# Altium integrated library Linear Technology Power Management System Supervisor, Monitor and Control.IntLib: 1611 symbols (part 29 of 100)
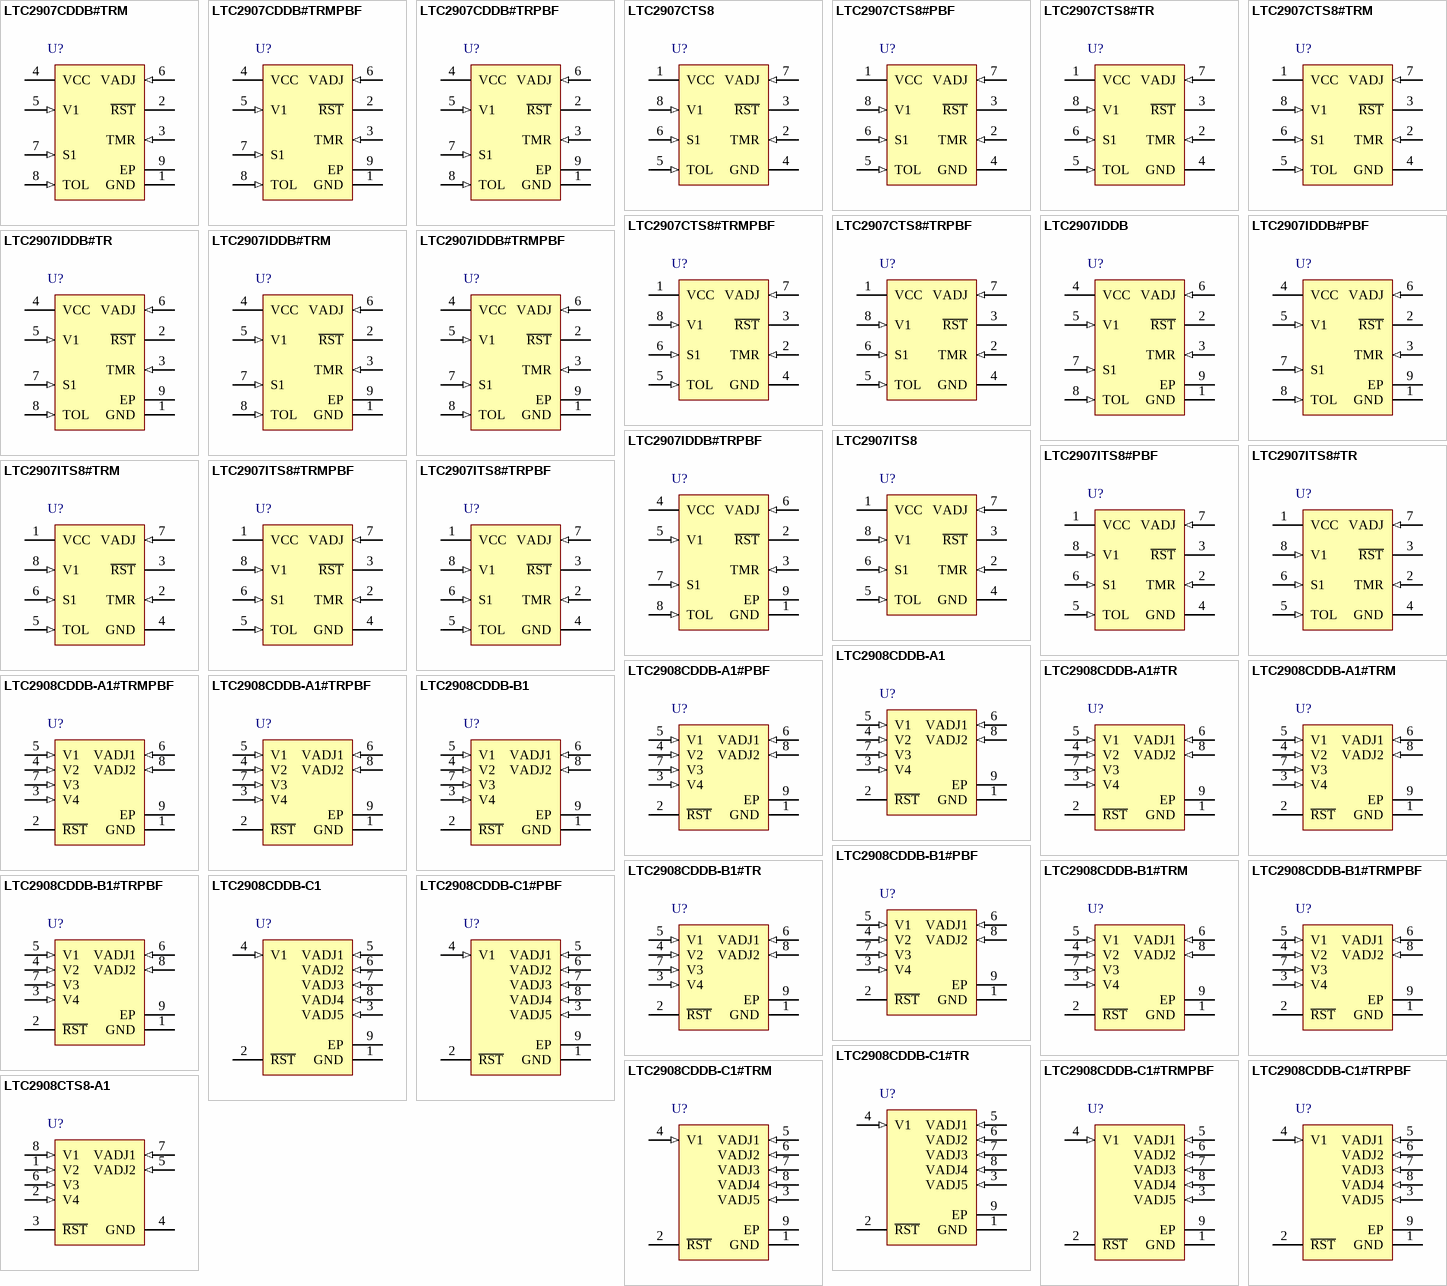
[diagram p73: symbols LTC2907CDDB#TRM to LTC2908CTS8-A1]

## LTC2907ITS8
designator U?
Precision Dual Supply Monitor with One Pin-Selectable Threshold and One Adjustable Input, 8-pin SOT23 (TS8-8), -40 to 85 degC; Manufacturer: Linear Technology; PartNumber: LTC2907ITS8; Number of Supplies(#): 2; PackageVersion: Rev. A, 08/2010; PackageReference: TS8-8; PackageDescription: 8-Pin Plastic TSOT-23, Body 2.9 x 1.63 mm, Pitch 0.65 mm; RoHS: FALSE; Mounting Technology: Surface Mount; Code_JEDEC: MO-193; ComponentLink1Description: Manufacturer URL; ComponentLink1URL: http://www.linear.com/; ComponentLink2Description: Datasheet; ComponentLink2URL: http://cds.linear.com/docs/en/datasheet/29067f.pdf; ComponentLink3Description: Package Specification; ComponentLink3URL: http://cds.linear.com/docs/en/packaging/SOT_8_05-08-1637.pdf
footprint LT-TS8-8-TSOT-23_V (SOT23, 8-Leads, Body 2.9x1.75mm, Pitch 0.65mm)
pins: 1 VCC (power) "Optional Power Supply Pin. VCC powers and maintains the correct operation of the RST and R\S\T\ pins in the complete absence of V1. If V1 is present, the greater of VCC or V1 (VMAX) powers the internal circuitry and the (See Datasheet)", 2 TMR (in) "(LTC2907 Only) Reset Delay Time Programming Pin. Attach an external capacitor (CTMR) to GND to set a reset delay time of 9ms/nF. Leaving the pin open generates a minimum delay of approximately 200ms. A 22nF capacitor will (See Datasheet)", 3 ~{RST} (oc) "Inverted Reset Logic Output. Pulls low when either V1 or VADJ is below the reset threshold and holds low for programmed delay time after all voltage inputs are above threshold. This pin has a weak pull up to VMAX and may be (See Datasheet)", 4 GND (power) "Ground.", 5 TOL (in) "Three-State Input for Supply Tolerance Selection (5%, 7.5% or 10%). Refer to Applications Information for tolerance selection chart (Table 3).", 6 S1 (in) "The Voltage Threshold Select Three- State Input. Connect to V1, GND or leave unconnected in open state to select one of three possible input threshold levels (refer to Table 1).", 7 VADJ (in) "Adjustable Voltage Input. Bypass this pin to ground with a 0.1uF (or greater) capacitor in a noisy environment.", 8 V1 (in) "Voltage Input 1. Select from 5V, 3.3V or 2.5V. Refer to Table 1 for details. The greater of (V1, VCC) is also the internal VCC (VMAX). Bypass this pin to ground with a 0.1uF (or greater) capacitor."

## LTC2907ITS8#PBF
designator U?
Precision Dual Supply Monitor with One Pin-Selectable Threshold and One Adjustable Input, 8-pin SOT23 (TS8-8), -40 to 85 degC, Pb-Free; Manufacturer: Linear Technology; PartNumber: LTC2907ITS8#PBF; Number of Supplies(#): 2; PackageVersion: Rev. A, 08/2010; PackageReference: TS8-8; PackageDescription: 8-Pin Plastic TSOT-23, Body 2.9 x 1.63 mm, Pitch 0.65 mm; Supplier 1: Newark; Supplier Part Number 1: 78T3009; RoHS: TRUE; Mounting Technology: Surface Mount; Code_JEDEC: MO-193; ComponentLink1Description: Manufacturer URL; ComponentLink1URL: http://www.linear.com/; ComponentLink2Description: Datasheet; ComponentLink2URL: http://cds.linear.com/docs/en/datasheet/29067f.pdf; ComponentLink3Description: Package Specification; ComponentLink3URL: http://cds.linear.com/docs/en/packaging/SOT_8_05-08-1637.pdf
footprint LT-TS8-8-TSOT-23_V (SOT23, 8-Leads, Body 2.9x1.75mm, Pitch 0.65mm)
pins: 1 VCC (power) "Optional Power Supply Pin. VCC powers and maintains the correct operation of the RST and R\S\T\ pins in the complete absence of V1. If V1 is present, the greater of VCC or V1 (VMAX) powers the internal circuitry and the (See Datasheet)", 2 TMR (in) "(LTC2907 Only) Reset Delay Time Programming Pin. Attach an external capacitor (CTMR) to GND to set a reset delay time of 9ms/nF. Leaving the pin open generates a minimum delay of approximately 200ms. A 22nF capacitor will (See Datasheet)", 3 ~{RST} (oc) "Inverted Reset Logic Output. Pulls low when either V1 or VADJ is below the reset threshold and holds low for programmed delay time after all voltage inputs are above threshold. This pin has a weak pull up to VMAX and may be (See Datasheet)", 4 GND (power) "Ground.", 5 TOL (in) "Three-State Input for Supply Tolerance Selection (5%, 7.5% or 10%). Refer to Applications Information for tolerance selection chart (Table 3).", 6 S1 (in) "The Voltage Threshold Select Three- State Input. Connect to V1, GND or leave unconnected in open state to select one of three possible input threshold levels (refer to Table 1).", 7 VADJ (in) "Adjustable Voltage Input. Bypass this pin to ground with a 0.1uF (or greater) capacitor in a noisy environment.", 8 V1 (in) "Voltage Input 1. Select from 5V, 3.3V or 2.5V. Refer to Table 1 for details. The greater of (V1, VCC) is also the internal VCC (VMAX). Bypass this pin to ground with a 0.1uF (or greater) capacitor."

## LTC2907ITS8#TR
designator U?
Precision Dual Supply Monitor with One Pin-Selectable Threshold and One Adjustable Input, 8-pin SOT23 (TS8-8), -40 to 85 degC, Tape and Reel; Manufacturer: Linear Technology; PartNumber: LTC2907ITS8#TR; Number of Supplies(#): 2; PackageVersion: Rev. A, 08/2010; PackageReference: TS8-8; PackageDescription: 8-Pin Plastic TSOT-23, Body 2.9 x 1.63 mm, Pitch 0.65 mm; Supplier 1: Digi-Key; Supplier Part Number 1: LTC2907ITS8#TR-ND; Supplier 2: Newark; Supplier Part Number 2: 56M6719; Packing: Tape and Reel; RoHS: FALSE; Mounting Technology: Surface Mount; Code_JEDEC: MO-193; ComponentLink1Description: Manufacturer URL; ComponentLink1URL: http://www.linear.com/; ComponentLink2Description: Datasheet; ComponentLink2URL: http://cds.linear.com/docs/en/datasheet/29067f.pdf; ComponentLink3Description: Package Specification; ComponentLink3URL: http://cds.linear.com/docs/en/packaging/SOT_8_05-08-1637.pdf
footprint LT-TS8-8-TSOT-23_V (SOT23, 8-Leads, Body 2.9x1.75mm, Pitch 0.65mm)
pins: 1 VCC (power) "Optional Power Supply Pin. VCC powers and maintains the correct operation of the RST and R\S\T\ pins in the complete absence of V1. If V1 is present, the greater of VCC or V1 (VMAX) powers the internal circuitry and the (See Datasheet)", 2 TMR (in) "(LTC2907 Only) Reset Delay Time Programming Pin. Attach an external capacitor (CTMR) to GND to set a reset delay time of 9ms/nF. Leaving the pin open generates a minimum delay of approximately 200ms. A 22nF capacitor will (See Datasheet)", 3 ~{RST} (oc) "Inverted Reset Logic Output. Pulls low when either V1 or VADJ is below the reset threshold and holds low for programmed delay time after all voltage inputs are above threshold. This pin has a weak pull up to VMAX and may be (See Datasheet)", 4 GND (power) "Ground.", 5 TOL (in) "Three-State Input for Supply Tolerance Selection (5%, 7.5% or 10%). Refer to Applications Information for tolerance selection chart (Table 3).", 6 S1 (in) "The Voltage Threshold Select Three- State Input. Connect to V1, GND or leave unconnected in open state to select one of three possible input threshold levels (refer to Table 1).", 7 VADJ (in) "Adjustable Voltage Input. Bypass this pin to ground with a 0.1uF (or greater) capacitor in a noisy environment.", 8 V1 (in) "Voltage Input 1. Select from 5V, 3.3V or 2.5V. Refer to Table 1 for details. The greater of (V1, VCC) is also the internal VCC (VMAX). Bypass this pin to ground with a 0.1uF (or greater) capacitor."

## LTC2907ITS8#TRM
designator U?
Precision Dual Supply Monitor with One Pin-Selectable Threshold and One Adjustable Input, 8-pin SOT23 (TS8-8), -40 to 85 degC, Mini Tape and Reel; Manufacturer: Linear Technology; PartNumber: LTC2907ITS8#TRM; Number of Supplies(#): 2; PackageVersion: Rev. A, 08/2010; PackageReference: TS8-8; PackageDescription: 8-Pin Plastic TSOT-23, Body 2.9 x 1.63 mm, Pitch 0.65 mm; Supplier 1: Digi-Key; Supplier Part Number 1: LTC2907ITS8#TRM-ND; Packing: Mini Tape and Reel; RoHS: FALSE; Mounting Technology: Surface Mount; Code_JEDEC: MO-193; ComponentLink1Description: Manufacturer URL; ComponentLink1URL: http://www.linear.com/; ComponentLink2Description: Datasheet; ComponentLink2URL: http://cds.linear.com/docs/en/datasheet/29067f.pdf; ComponentLink3Description: Package Specification; ComponentLink3URL: http://cds.linear.com/docs/en/packaging/SOT_8_05-08-1637.pdf
footprint LT-TS8-8-TSOT-23_V (SOT23, 8-Leads, Body 2.9x1.75mm, Pitch 0.65mm)
pins: 1 VCC (power) "Optional Power Supply Pin. VCC powers and maintains the correct operation of the RST and R\S\T\ pins in the complete absence of V1. If V1 is present, the greater of VCC or V1 (VMAX) powers the internal circuitry and the (See Datasheet)", 2 TMR (in) "(LTC2907 Only) Reset Delay Time Programming Pin. Attach an external capacitor (CTMR) to GND to set a reset delay time of 9ms/nF. Leaving the pin open generates a minimum delay of approximately 200ms. A 22nF capacitor will (See Datasheet)", 3 ~{RST} (oc) "Inverted Reset Logic Output. Pulls low when either V1 or VADJ is below the reset threshold and holds low for programmed delay time after all voltage inputs are above threshold. This pin has a weak pull up to VMAX and may be (See Datasheet)", 4 GND (power) "Ground.", 5 TOL (in) "Three-State Input for Supply Tolerance Selection (5%, 7.5% or 10%). Refer to Applications Information for tolerance selection chart (Table 3).", 6 S1 (in) "The Voltage Threshold Select Three- State Input. Connect to V1, GND or leave unconnected in open state to select one of three possible input threshold levels (refer to Table 1).", 7 VADJ (in) "Adjustable Voltage Input. Bypass this pin to ground with a 0.1uF (or greater) capacitor in a noisy environment.", 8 V1 (in) "Voltage Input 1. Select from 5V, 3.3V or 2.5V. Refer to Table 1 for details. The greater of (V1, VCC) is also the internal VCC (VMAX). Bypass this pin to ground with a 0.1uF (or greater) capacitor."

## LTC2907ITS8#TRMPBF
designator U?
Precision Dual Supply Monitor with One Pin-Selectable Threshold and One Adjustable Input, 8-pin SOT23 (TS8-8), -40 to 85 degC, Pb-Free, Mini Tape and Reel; Manufacturer: Linear Technology; PartNumber: LTC2907ITS8#TRMPBF; Number of Supplies(#): 2; PackageVersion: Rev. A, 08/2010; PackageReference: TS8-8; PackageDescription: 8-Pin Plastic TSOT-23, Body 2.9 x 1.63 mm, Pitch 0.65 mm; Supplier 1: Digi-Key; Supplier Part Number 1: LTC2907ITS8#TRMPBFTR-ND; Supplier 2: Digi-Key; Supplier Part Number 2: LTC2907ITS8#TRMPBFCT-ND; Supplier 3: Digi-Key; Supplier Part Number 3: LTC2907ITS8#TRMPBFDKR-ND; Packing: Mini Tape and Reel; RoHS: TRUE; Mounting Technology: Surface Mount; Code_JEDEC: MO-193; ComponentLink1Description: Manufacturer URL; ComponentLink1URL: http://www.linear.com/; ComponentLink2Description: Datasheet; ComponentLink2URL: http://cds.linear.com/docs/en/datasheet/29067f.pdf; ComponentLink3Description: Package Specification; ComponentLink3URL: http://cds.linear.com/docs/en/packaging/SOT_8_05-08-1637.pdf
footprint LT-TS8-8-TSOT-23_V (SOT23, 8-Leads, Body 2.9x1.75mm, Pitch 0.65mm)
pins: 1 VCC (power) "Optional Power Supply Pin. VCC powers and maintains the correct operation of the RST and R\S\T\ pins in the complete absence of V1. If V1 is present, the greater of VCC or V1 (VMAX) powers the internal circuitry and the (See Datasheet)", 2 TMR (in) "(LTC2907 Only) Reset Delay Time Programming Pin. Attach an external capacitor (CTMR) to GND to set a reset delay time of 9ms/nF. Leaving the pin open generates a minimum delay of approximately 200ms. A 22nF capacitor will (See Datasheet)", 3 ~{RST} (oc) "Inverted Reset Logic Output. Pulls low when either V1 or VADJ is below the reset threshold and holds low for programmed delay time after all voltage inputs are above threshold. This pin has a weak pull up to VMAX and may be (See Datasheet)", 4 GND (power) "Ground.", 5 TOL (in) "Three-State Input for Supply Tolerance Selection (5%, 7.5% or 10%). Refer to Applications Information for tolerance selection chart (Table 3).", 6 S1 (in) "The Voltage Threshold Select Three- State Input. Connect to V1, GND or leave unconnected in open state to select one of three possible input threshold levels (refer to Table 1).", 7 VADJ (in) "Adjustable Voltage Input. Bypass this pin to ground with a 0.1uF (or greater) capacitor in a noisy environment.", 8 V1 (in) "Voltage Input 1. Select from 5V, 3.3V or 2.5V. Refer to Table 1 for details. The greater of (V1, VCC) is also the internal VCC (VMAX). Bypass this pin to ground with a 0.1uF (or greater) capacitor."

## LTC2907ITS8#TRPBF
designator U?
Precision Dual Supply Monitor with One Pin-Selectable Threshold and One Adjustable Input, 8-pin SOT23 (TS8-8), -40 to 85 degC, Pb-Free, Tape and Reel; Manufacturer: Linear Technology; PartNumber: LTC2907ITS8#TRPBF; Number of Supplies(#): 2; PackageVersion: Rev. A, 08/2010; PackageReference: TS8-8; PackageDescription: 8-Pin Plastic TSOT-23, Body 2.9 x 1.63 mm, Pitch 0.65 mm; Supplier 1: Digi-Key; Supplier Part Number 1: LTC2907ITS8#TRPBF-ND; Supplier 2: Newark; Supplier Part Number 2: 56M6722; Packing: Tape and Reel; RoHS: TRUE; Mounting Technology: Surface Mount; Code_JEDEC: MO-193; ComponentLink1Description: Manufacturer URL; ComponentLink1URL: http://www.linear.com/; ComponentLink2Description: Datasheet; ComponentLink2URL: http://cds.linear.com/docs/en/datasheet/29067f.pdf; ComponentLink3Description: Package Specification; ComponentLink3URL: http://cds.linear.com/docs/en/packaging/SOT_8_05-08-1637.pdf
footprint LT-TS8-8-TSOT-23_V (SOT23, 8-Leads, Body 2.9x1.75mm, Pitch 0.65mm)
pins: 1 VCC (power) "Optional Power Supply Pin. VCC powers and maintains the correct operation of the RST and R\S\T\ pins in the complete absence of V1. If V1 is present, the greater of VCC or V1 (VMAX) powers the internal circuitry and the (See Datasheet)", 2 TMR (in) "(LTC2907 Only) Reset Delay Time Programming Pin. Attach an external capacitor (CTMR) to GND to set a reset delay time of 9ms/nF. Leaving the pin open generates a minimum delay of approximately 200ms. A 22nF capacitor will (See Datasheet)", 3 ~{RST} (oc) "Inverted Reset Logic Output. Pulls low when either V1 or VADJ is below the reset threshold and holds low for programmed delay time after all voltage inputs are above threshold. This pin has a weak pull up to VMAX and may be (See Datasheet)", 4 GND (power) "Ground.", 5 TOL (in) "Three-State Input for Supply Tolerance Selection (5%, 7.5% or 10%). Refer to Applications Information for tolerance selection chart (Table 3).", 6 S1 (in) "The Voltage Threshold Select Three- State Input. Connect to V1, GND or leave unconnected in open state to select one of three possible input threshold levels (refer to Table 1).", 7 VADJ (in) "Adjustable Voltage Input. Bypass this pin to ground with a 0.1uF (or greater) capacitor in a noisy environment.", 8 V1 (in) "Voltage Input 1. Select from 5V, 3.3V or 2.5V. Refer to Table 1 for details. The greater of (V1, VCC) is also the internal VCC (VMAX). Bypass this pin to ground with a 0.1uF (or greater) capacitor."

## LTC2908CDDB-A1
designator U?
Precision Six Supply Monitor, 8-pin SON (DDB-8), 0 to 70 degC; Manufacturer: Linear Technology; PartNumber: LTC2908CDDB-A1; Number of Supplies(#): 6; DatasheetVersion: Rev. D; PackageVersion: Rev. B, 06/2010; PackageReference: DDB-8; PackageDescription: 8-Pin Plastic DFN, Body 3 x 2 mm, Pitch 0.5 mm; RoHS: FALSE; Mounting Technology: Surface Mount; Code_JEDEC: MO-229; ComponentLink1Description: Manufacturer URL; ComponentLink1URL: http://www.linear.com/; ComponentLink2Description: Datasheet; ComponentLink2URL: http://cds.linear.com/docs/en/datasheet/2908fd.pdf; ComponentLink3Description: Package Specification; ComponentLink3URL: http://cds.linear.com/docs/en/packaging/DFN_8_05-08-1702.pdf
footprint LT-DDB-8_V (SON, 8-Leads, Body 3x2mm, Pitch 0.5mm, Thermal Pad 2.2x0.61mm)
pins: 1 GND (power) "Device Ground.", 2 ~{RST} (oc) "Reset Logic Output. Pulls low when any voltage input is below the reset threshold and is held low for 200ms after all voltage inputs are above threshold. This pin has a weak pull-up to VCC and may be pulled above VCC using (See Datasheet)", 3 V4 (in) "Voltage Input 4.", 4 V2 (in) "Voltage Input 2. The greater of V1, V2 is also the internal VCC. The operating voltage on this pin shall not exceed 6V. When in normal operation (V1 > V2), this pin draws approximately 8uA. When this pin is acting as the VCC (See Datasheet)", 5 V1 (in) "Voltage Input 1. The greater of V1, V2 is also the internal VCC. The operating voltage on this pin shall not exceed 6V. When in normal operation (V1 > V2), this pin draws approximately 26uA. When this pin is not acting as (See Datasheet)", 6 VADJ1 (in) "Adjustable Voltage Input 1. See Table 1 for recommended ADJ resistors values.", 7 V3 (in) "Voltage Input 3.", 8 VADJ2 (in) "Adjustable Voltage Input 2. See Table 1 for recommended ADJ resistors values.", 9 EP (power) "Exposed pad may be left open or connected to device ground."

## LTC2908CDDB-A1#PBF
designator U?
Precision Six Supply Monitor, 8-pin SON (DDB-8), 0 to 70 degC, Pb-Free; Manufacturer: Linear Technology; PartNumber: LTC2908CDDB-A1#PBF; Number of Supplies(#): 6; DatasheetVersion: Rev. D; PackageVersion: Rev. B, 06/2010; PackageReference: DDB-8; PackageDescription: 8-Pin Plastic DFN, Body 3 x 2 mm, Pitch 0.5 mm; Supplier 1: Newark; Supplier Part Number 1: 78T3010; RoHS: TRUE; Mounting Technology: Surface Mount; Code_JEDEC: MO-229; ComponentLink1Description: Manufacturer URL; ComponentLink1URL: http://www.linear.com/; ComponentLink2Description: Datasheet; ComponentLink2URL: http://cds.linear.com/docs/en/datasheet/2908fd.pdf; ComponentLink3Description: Package Specification; ComponentLink3URL: http://cds.linear.com/docs/en/packaging/DFN_8_05-08-1702.pdf
footprint LT-DDB-8_V (SON, 8-Leads, Body 3x2mm, Pitch 0.5mm, Thermal Pad 2.2x0.61mm)
pins: 1 GND (power) "Device Ground.", 2 ~{RST} (oc) "Reset Logic Output. Pulls low when any voltage input is below the reset threshold and is held low for 200ms after all voltage inputs are above threshold. This pin has a weak pull-up to VCC and may be pulled above VCC using (See Datasheet)", 3 V4 (in) "Voltage Input 4.", 4 V2 (in) "Voltage Input 2. The greater of V1, V2 is also the internal VCC. The operating voltage on this pin shall not exceed 6V. When in normal operation (V1 > V2), this pin draws approximately 8uA. When this pin is acting as the VCC (See Datasheet)", 5 V1 (in) "Voltage Input 1. The greater of V1, V2 is also the internal VCC. The operating voltage on this pin shall not exceed 6V. When in normal operation (V1 > V2), this pin draws approximately 26uA. When this pin is not acting as (See Datasheet)", 6 VADJ1 (in) "Adjustable Voltage Input 1. See Table 1 for recommended ADJ resistors values.", 7 V3 (in) "Voltage Input 3.", 8 VADJ2 (in) "Adjustable Voltage Input 2. See Table 1 for recommended ADJ resistors values.", 9 EP (power) "Exposed pad may be left open or connected to device ground."

## LTC2908CDDB-A1#TR
designator U?
Precision Six Supply Monitor, 8-pin SON (DDB-8), 0 to 70 degC, Tape and Reel; Manufacturer: Linear Technology; PartNumber: LTC2908CDDB-A1#TR; Number of Supplies(#): 6; DatasheetVersion: Rev. D; PackageVersion: Rev. B, 06/2010; PackageReference: DDB-8; PackageDescription: 8-Pin Plastic DFN, Body 3 x 2 mm, Pitch 0.5 mm; Supplier 1: Digi-Key; Supplier Part Number 1: LTC2908CDDB-A1#TR-ND; Packing: Tape and Reel; RoHS: FALSE; Mounting Technology: Surface Mount; Code_JEDEC: MO-229; ComponentLink1Description: Manufacturer URL; ComponentLink1URL: http://www.linear.com/; ComponentLink2Description: Datasheet; ComponentLink2URL: http://cds.linear.com/docs/en/datasheet/2908fd.pdf; ComponentLink3Description: Package Specification; ComponentLink3URL: http://cds.linear.com/docs/en/packaging/DFN_8_05-08-1702.pdf
footprint LT-DDB-8_V (SON, 8-Leads, Body 3x2mm, Pitch 0.5mm, Thermal Pad 2.2x0.61mm)
pins: 1 GND (power) "Device Ground.", 2 ~{RST} (oc) "Reset Logic Output. Pulls low when any voltage input is below the reset threshold and is held low for 200ms after all voltage inputs are above threshold. This pin has a weak pull-up to VCC and may be pulled above VCC using (See Datasheet)", 3 V4 (in) "Voltage Input 4.", 4 V2 (in) "Voltage Input 2. The greater of V1, V2 is also the internal VCC. The operating voltage on this pin shall not exceed 6V. When in normal operation (V1 > V2), this pin draws approximately 8uA. When this pin is acting as the VCC (See Datasheet)", 5 V1 (in) "Voltage Input 1. The greater of V1, V2 is also the internal VCC. The operating voltage on this pin shall not exceed 6V. When in normal operation (V1 > V2), this pin draws approximately 26uA. When this pin is not acting as (See Datasheet)", 6 VADJ1 (in) "Adjustable Voltage Input 1. See Table 1 for recommended ADJ resistors values.", 7 V3 (in) "Voltage Input 3.", 8 VADJ2 (in) "Adjustable Voltage Input 2. See Table 1 for recommended ADJ resistors values.", 9 EP (power) "Exposed pad may be left open or connected to device ground."

## LTC2908CDDB-A1#TRM
designator U?
Precision Six Supply Monitor, 8-pin SON (DDB-8), 0 to 70 degC, Mini Tape and Reel; Manufacturer: Linear Technology; PartNumber: LTC2908CDDB-A1#TRM; Number of Supplies(#): 6; DatasheetVersion: Rev. D; PackageVersion: Rev. B, 06/2010; PackageReference: DDB-8; PackageDescription: 8-Pin Plastic DFN, Body 3 x 2 mm, Pitch 0.5 mm; Supplier 1: Digi-Key; Supplier Part Number 1: LTC2908CDDB-A1#TRM-ND; Packing: Mini Tape and Reel; RoHS: FALSE; Mounting Technology: Surface Mount; Code_JEDEC: MO-229; ComponentLink1Description: Manufacturer URL; ComponentLink1URL: http://www.linear.com/; ComponentLink2Description: Datasheet; ComponentLink2URL: http://cds.linear.com/docs/en/datasheet/2908fd.pdf; ComponentLink3Description: Package Specification; ComponentLink3URL: http://cds.linear.com/docs/en/packaging/DFN_8_05-08-1702.pdf
footprint LT-DDB-8_V (SON, 8-Leads, Body 3x2mm, Pitch 0.5mm, Thermal Pad 2.2x0.61mm)
pins: 1 GND (power) "Device Ground.", 2 ~{RST} (oc) "Reset Logic Output. Pulls low when any voltage input is below the reset threshold and is held low for 200ms after all voltage inputs are above threshold. This pin has a weak pull-up to VCC and may be pulled above VCC using (See Datasheet)", 3 V4 (in) "Voltage Input 4.", 4 V2 (in) "Voltage Input 2. The greater of V1, V2 is also the internal VCC. The operating voltage on this pin shall not exceed 6V. When in normal operation (V1 > V2), this pin draws approximately 8uA. When this pin is acting as the VCC (See Datasheet)", 5 V1 (in) "Voltage Input 1. The greater of V1, V2 is also the internal VCC. The operating voltage on this pin shall not exceed 6V. When in normal operation (V1 > V2), this pin draws approximately 26uA. When this pin is not acting as (See Datasheet)", 6 VADJ1 (in) "Adjustable Voltage Input 1. See Table 1 for recommended ADJ resistors values.", 7 V3 (in) "Voltage Input 3.", 8 VADJ2 (in) "Adjustable Voltage Input 2. See Table 1 for recommended ADJ resistors values.", 9 EP (power) "Exposed pad may be left open or connected to device ground."

## LTC2908CDDB-A1#TRMPBF
designator U?
Precision Six Supply Monitor, 8-pin SON (DDB-8), 0 to 70 degC, Pb-Free, Mini Tape and Reel; Manufacturer: Linear Technology; PartNumber: LTC2908CDDB-A1#TRMPBF; Number of Supplies(#): 6; DatasheetVersion: Rev. D; PackageVersion: Rev. B, 06/2010; PackageReference: DDB-8; PackageDescription: 8-Pin Plastic DFN, Body 3 x 2 mm, Pitch 0.5 mm; Supplier 1: Digi-Key; Supplier Part Number 1: LTC2908CDDB-A1#TRMPBF-ND; Packing: Mini Tape and Reel; RoHS: TRUE; Mounting Technology: Surface Mount; Code_JEDEC: MO-229; ComponentLink1Description: Manufacturer URL; ComponentLink1URL: http://www.linear.com/; ComponentLink2Description: Datasheet; ComponentLink2URL: http://cds.linear.com/docs/en/datasheet/2908fd.pdf; ComponentLink3Description: Package Specification; ComponentLink3URL: http://cds.linear.com/docs/en/packaging/DFN_8_05-08-1702.pdf
footprint LT-DDB-8_V (SON, 8-Leads, Body 3x2mm, Pitch 0.5mm, Thermal Pad 2.2x0.61mm)
pins: 1 GND (power) "Device Ground.", 2 ~{RST} (oc) "Reset Logic Output. Pulls low when any voltage input is below the reset threshold and is held low for 200ms after all voltage inputs are above threshold. This pin has a weak pull-up to VCC and may be pulled above VCC using (See Datasheet)", 3 V4 (in) "Voltage Input 4.", 4 V2 (in) "Voltage Input 2. The greater of V1, V2 is also the internal VCC. The operating voltage on this pin shall not exceed 6V. When in normal operation (V1 > V2), this pin draws approximately 8uA. When this pin is acting as the VCC (See Datasheet)", 5 V1 (in) "Voltage Input 1. The greater of V1, V2 is also the internal VCC. The operating voltage on this pin shall not exceed 6V. When in normal operation (V1 > V2), this pin draws approximately 26uA. When this pin is not acting as (See Datasheet)", 6 VADJ1 (in) "Adjustable Voltage Input 1. See Table 1 for recommended ADJ resistors values.", 7 V3 (in) "Voltage Input 3.", 8 VADJ2 (in) "Adjustable Voltage Input 2. See Table 1 for recommended ADJ resistors values.", 9 EP (power) "Exposed pad may be left open or connected to device ground."

## LTC2908CDDB-A1#TRPBF
designator U?
Precision Six Supply Monitor, 8-pin SON (DDB-8), 0 to 70 degC, Pb-Free, Tape and Reel; Manufacturer: Linear Technology; PartNumber: LTC2908CDDB-A1#TRPBF; Number of Supplies(#): 6; DatasheetVersion: Rev. D; PackageVersion: Rev. B, 06/2010; PackageReference: DDB-8; PackageDescription: 8-Pin Plastic DFN, Body 3 x 2 mm, Pitch 0.5 mm; Supplier 1: Digi-Key; Supplier Part Number 1: LTC2908CDDB-A1#TRPBF-ND; Packing: Tape and Reel; RoHS: TRUE; Mounting Technology: Surface Mount; Code_JEDEC: MO-229; ComponentLink1Description: Manufacturer URL; ComponentLink1URL: http://www.linear.com/; ComponentLink2Description: Datasheet; ComponentLink2URL: http://cds.linear.com/docs/en/datasheet/2908fd.pdf; ComponentLink3Description: Package Specification; ComponentLink3URL: http://cds.linear.com/docs/en/packaging/DFN_8_05-08-1702.pdf
footprint LT-DDB-8_V (SON, 8-Leads, Body 3x2mm, Pitch 0.5mm, Thermal Pad 2.2x0.61mm)
pins: 1 GND (power) "Device Ground.", 2 ~{RST} (oc) "Reset Logic Output. Pulls low when any voltage input is below the reset threshold and is held low for 200ms after all voltage inputs are above threshold. This pin has a weak pull-up to VCC and may be pulled above VCC using (See Datasheet)", 3 V4 (in) "Voltage Input 4.", 4 V2 (in) "Voltage Input 2. The greater of V1, V2 is also the internal VCC. The operating voltage on this pin shall not exceed 6V. When in normal operation (V1 > V2), this pin draws approximately 8uA. When this pin is acting as the VCC (See Datasheet)", 5 V1 (in) "Voltage Input 1. The greater of V1, V2 is also the internal VCC. The operating voltage on this pin shall not exceed 6V. When in normal operation (V1 > V2), this pin draws approximately 26uA. When this pin is not acting as (See Datasheet)", 6 VADJ1 (in) "Adjustable Voltage Input 1. See Table 1 for recommended ADJ resistors values.", 7 V3 (in) "Voltage Input 3.", 8 VADJ2 (in) "Adjustable Voltage Input 2. See Table 1 for recommended ADJ resistors values.", 9 EP (power) "Exposed pad may be left open or connected to device ground."

## LTC2908CDDB-B1
designator U?
Precision Six Supply Monitor, 8-pin SON (DDB-8), 0 to 70 degC; Manufacturer: Linear Technology; PartNumber: LTC2908CDDB-B1; Number of Supplies(#): 6; DatasheetVersion: Rev. D; PackageVersion: Rev. B, 06/2010; PackageReference: DDB-8; PackageDescription: 8-Pin Plastic DFN, Body 3 x 2 mm, Pitch 0.5 mm; RoHS: FALSE; Mounting Technology: Surface Mount; Code_JEDEC: MO-229; ComponentLink1Description: Manufacturer URL; ComponentLink1URL: http://www.linear.com/; ComponentLink2Description: Datasheet; ComponentLink2URL: http://cds.linear.com/docs/en/datasheet/2908fd.pdf; ComponentLink3Description: Package Specification; ComponentLink3URL: http://cds.linear.com/docs/en/packaging/DFN_8_05-08-1702.pdf
footprint LT-DDB-8_V (SON, 8-Leads, Body 3x2mm, Pitch 0.5mm, Thermal Pad 2.2x0.61mm)
pins: 1 GND (power) "Device Ground.", 2 ~{RST} (oc) "Reset Logic Output. Pulls low when any voltage input is below the reset threshold and is held low for 200ms after all voltage inputs are above threshold. This pin has a weak pull-up to VCC and may be pulled above VCC using (See Datasheet)", 3 V4 (in) "Voltage Input 4.", 4 V2 (in) "Voltage Input 2. The greater of V1, V2 is also the internal VCC. The operating voltage on this pin shall not exceed 6V. When in normal operation (V1 > V2), this pin draws approximately 8uA. When this pin is acting as the VCC (See Datasheet)", 5 V1 (in) "Voltage Input 1. The greater of V1, V2 is also the internal VCC. The operating voltage on this pin shall not exceed 6V. When in normal operation (V1 > V2), this pin draws approximately 26uA. When this pin is not acting as (See Datasheet)", 6 VADJ1 (in) "Adjustable Voltage Input 1. See Table 1 for recommended ADJ resistors values.", 7 V3 (in) "Voltage Input 3.", 8 VADJ2 (in) "Adjustable Voltage Input 2. See Table 1 for recommended ADJ resistors values.", 9 EP (power) "Exposed pad may be left open or connected to device ground."

## LTC2908CDDB-B1#PBF
designator U?
Precision Six Supply Monitor, 8-pin SON (DDB-8), 0 to 70 degC, Pb-Free; Manufacturer: Linear Technology; PartNumber: LTC2908CDDB-B1#PBF; Number of Supplies(#): 6; DatasheetVersion: Rev. D; PackageVersion: Rev. B, 06/2010; PackageReference: DDB-8; PackageDescription: 8-Pin Plastic DFN, Body 3 x 2 mm, Pitch 0.5 mm; RoHS: TRUE; Mounting Technology: Surface Mount; Code_JEDEC: MO-229; ComponentLink1Description: Manufacturer URL; ComponentLink1URL: http://www.linear.com/; ComponentLink2Description: Datasheet; ComponentLink2URL: http://cds.linear.com/docs/en/datasheet/2908fd.pdf; ComponentLink3Description: Package Specification; ComponentLink3URL: http://cds.linear.com/docs/en/packaging/DFN_8_05-08-1702.pdf
footprint LT-DDB-8_V (SON, 8-Leads, Body 3x2mm, Pitch 0.5mm, Thermal Pad 2.2x0.61mm)
pins: 1 GND (power) "Device Ground.", 2 ~{RST} (oc) "Reset Logic Output. Pulls low when any voltage input is below the reset threshold and is held low for 200ms after all voltage inputs are above threshold. This pin has a weak pull-up to VCC and may be pulled above VCC using (See Datasheet)", 3 V4 (in) "Voltage Input 4.", 4 V2 (in) "Voltage Input 2. The greater of V1, V2 is also the internal VCC. The operating voltage on this pin shall not exceed 6V. When in normal operation (V1 > V2), this pin draws approximately 8uA. When this pin is acting as the VCC (See Datasheet)", 5 V1 (in) "Voltage Input 1. The greater of V1, V2 is also the internal VCC. The operating voltage on this pin shall not exceed 6V. When in normal operation (V1 > V2), this pin draws approximately 26uA. When this pin is not acting as (See Datasheet)", 6 VADJ1 (in) "Adjustable Voltage Input 1. See Table 1 for recommended ADJ resistors values.", 7 V3 (in) "Voltage Input 3.", 8 VADJ2 (in) "Adjustable Voltage Input 2. See Table 1 for recommended ADJ resistors values.", 9 EP (power) "Exposed pad may be left open or connected to device ground."

## LTC2908CDDB-B1#TR
designator U?
Precision Six Supply Monitor, 8-pin SON (DDB-8), 0 to 70 degC, Tape and Reel; Manufacturer: Linear Technology; PartNumber: LTC2908CDDB-B1#TR; Number of Supplies(#): 6; DatasheetVersion: Rev. D; PackageVersion: Rev. B, 06/2010; PackageReference: DDB-8; PackageDescription: 8-Pin Plastic DFN, Body 3 x 2 mm, Pitch 0.5 mm; Supplier 1: Digi-Key; Supplier Part Number 1: LTC2908CDDB-B1#TR-ND; Packing: Tape and Reel; RoHS: FALSE; Mounting Technology: Surface Mount; Code_JEDEC: MO-229; ComponentLink1Description: Manufacturer URL; ComponentLink1URL: http://www.linear.com/; ComponentLink2Description: Datasheet; ComponentLink2URL: http://cds.linear.com/docs/en/datasheet/2908fd.pdf; ComponentLink3Description: Package Specification; ComponentLink3URL: http://cds.linear.com/docs/en/packaging/DFN_8_05-08-1702.pdf
footprint LT-DDB-8_V (SON, 8-Leads, Body 3x2mm, Pitch 0.5mm, Thermal Pad 2.2x0.61mm)
pins: 1 GND (power) "Device Ground.", 2 ~{RST} (oc) "Reset Logic Output. Pulls low when any voltage input is below the reset threshold and is held low for 200ms after all voltage inputs are above threshold. This pin has a weak pull-up to VCC and may be pulled above VCC using (See Datasheet)", 3 V4 (in) "Voltage Input 4.", 4 V2 (in) "Voltage Input 2. The greater of V1, V2 is also the internal VCC. The operating voltage on this pin shall not exceed 6V. When in normal operation (V1 > V2), this pin draws approximately 8uA. When this pin is acting as the VCC (See Datasheet)", 5 V1 (in) "Voltage Input 1. The greater of V1, V2 is also the internal VCC. The operating voltage on this pin shall not exceed 6V. When in normal operation (V1 > V2), this pin draws approximately 26uA. When this pin is not acting as (See Datasheet)", 6 VADJ1 (in) "Adjustable Voltage Input 1. See Table 1 for recommended ADJ resistors values.", 7 V3 (in) "Voltage Input 3.", 8 VADJ2 (in) "Adjustable Voltage Input 2. See Table 1 for recommended ADJ resistors values.", 9 EP (power) "Exposed pad may be left open or connected to device ground."

## LTC2908CDDB-B1#TRM
designator U?
Precision Six Supply Monitor, 8-pin SON (DDB-8), 0 to 70 degC, Mini Tape and Reel; Manufacturer: Linear Technology; PartNumber: LTC2908CDDB-B1#TRM; Number of Supplies(#): 6; DatasheetVersion: Rev. D; PackageVersion: Rev. B, 06/2010; PackageReference: DDB-8; PackageDescription: 8-Pin Plastic DFN, Body 3 x 2 mm, Pitch 0.5 mm; Supplier 1: Digi-Key; Supplier Part Number 1: LTC2908CDDB-B1#TRM-ND; Packing: Mini Tape and Reel; RoHS: FALSE; Mounting Technology: Surface Mount; Code_JEDEC: MO-229; ComponentLink1Description: Manufacturer URL; ComponentLink1URL: http://www.linear.com/; ComponentLink2Description: Datasheet; ComponentLink2URL: http://cds.linear.com/docs/en/datasheet/2908fd.pdf; ComponentLink3Description: Package Specification; ComponentLink3URL: http://cds.linear.com/docs/en/packaging/DFN_8_05-08-1702.pdf
footprint LT-DDB-8_V (SON, 8-Leads, Body 3x2mm, Pitch 0.5mm, Thermal Pad 2.2x0.61mm)
pins: 1 GND (power) "Device Ground.", 2 ~{RST} (oc) "Reset Logic Output. Pulls low when any voltage input is below the reset threshold and is held low for 200ms after all voltage inputs are above threshold. This pin has a weak pull-up to VCC and may be pulled above VCC using (See Datasheet)", 3 V4 (in) "Voltage Input 4.", 4 V2 (in) "Voltage Input 2. The greater of V1, V2 is also the internal VCC. The operating voltage on this pin shall not exceed 6V. When in normal operation (V1 > V2), this pin draws approximately 8uA. When this pin is acting as the VCC (See Datasheet)", 5 V1 (in) "Voltage Input 1. The greater of V1, V2 is also the internal VCC. The operating voltage on this pin shall not exceed 6V. When in normal operation (V1 > V2), this pin draws approximately 26uA. When this pin is not acting as (See Datasheet)", 6 VADJ1 (in) "Adjustable Voltage Input 1. See Table 1 for recommended ADJ resistors values.", 7 V3 (in) "Voltage Input 3.", 8 VADJ2 (in) "Adjustable Voltage Input 2. See Table 1 for recommended ADJ resistors values.", 9 EP (power) "Exposed pad may be left open or connected to device ground."

## LTC2908CDDB-B1#TRMPBF
designator U?
Precision Six Supply Monitor, 8-pin SON (DDB-8), 0 to 70 degC, Pb-Free, Mini Tape and Reel; Manufacturer: Linear Technology; PartNumber: LTC2908CDDB-B1#TRMPBF; Number of Supplies(#): 6; DatasheetVersion: Rev. D; PackageVersion: Rev. B, 06/2010; PackageReference: DDB-8; PackageDescription: 8-Pin Plastic DFN, Body 3 x 2 mm, Pitch 0.5 mm; Supplier 1: Digi-Key; Supplier Part Number 1: LTC2908CDDB-B1#TRMPBF-ND; Packing: Mini Tape and Reel; RoHS: TRUE; Mounting Technology: Surface Mount; Code_JEDEC: MO-229; ComponentLink1Description: Manufacturer URL; ComponentLink1URL: http://www.linear.com/; ComponentLink2Description: Datasheet; ComponentLink2URL: http://cds.linear.com/docs/en/datasheet/2908fd.pdf; ComponentLink3Description: Package Specification; ComponentLink3URL: http://cds.linear.com/docs/en/packaging/DFN_8_05-08-1702.pdf
footprint LT-DDB-8_V (SON, 8-Leads, Body 3x2mm, Pitch 0.5mm, Thermal Pad 2.2x0.61mm)
pins: 1 GND (power) "Device Ground.", 2 ~{RST} (oc) "Reset Logic Output. Pulls low when any voltage input is below the reset threshold and is held low for 200ms after all voltage inputs are above threshold. This pin has a weak pull-up to VCC and may be pulled above VCC using (See Datasheet)", 3 V4 (in) "Voltage Input 4.", 4 V2 (in) "Voltage Input 2. The greater of V1, V2 is also the internal VCC. The operating voltage on this pin shall not exceed 6V. When in normal operation (V1 > V2), this pin draws approximately 8uA. When this pin is acting as the VCC (See Datasheet)", 5 V1 (in) "Voltage Input 1. The greater of V1, V2 is also the internal VCC. The operating voltage on this pin shall not exceed 6V. When in normal operation (V1 > V2), this pin draws approximately 26uA. When this pin is not acting as (See Datasheet)", 6 VADJ1 (in) "Adjustable Voltage Input 1. See Table 1 for recommended ADJ resistors values.", 7 V3 (in) "Voltage Input 3.", 8 VADJ2 (in) "Adjustable Voltage Input 2. See Table 1 for recommended ADJ resistors values.", 9 EP (power) "Exposed pad may be left open or connected to device ground."

## LTC2908CDDB-B1#TRPBF
designator U?
Precision Six Supply Monitor, 8-pin SON (DDB-8), 0 to 70 degC, Pb-Free, Tape and Reel; Manufacturer: Linear Technology; PartNumber: LTC2908CDDB-B1#TRPBF; Number of Supplies(#): 6; DatasheetVersion: Rev. D; PackageVersion: Rev. B, 06/2010; PackageReference: DDB-8; PackageDescription: 8-Pin Plastic DFN, Body 3 x 2 mm, Pitch 0.5 mm; Supplier 1: Digi-Key; Supplier Part Number 1: LTC2908CDDB-B1#TRPBF-ND; Packing: Tape and Reel; RoHS: TRUE; Mounting Technology: Surface Mount; Code_JEDEC: MO-229; ComponentLink1Description: Manufacturer URL; ComponentLink1URL: http://www.linear.com/; ComponentLink2Description: Datasheet; ComponentLink2URL: http://cds.linear.com/docs/en/datasheet/2908fd.pdf; ComponentLink3Description: Package Specification; ComponentLink3URL: http://cds.linear.com/docs/en/packaging/DFN_8_05-08-1702.pdf
footprint LT-DDB-8_V (SON, 8-Leads, Body 3x2mm, Pitch 0.5mm, Thermal Pad 2.2x0.61mm)
pins: 1 GND (power) "Device Ground.", 2 ~{RST} (oc) "Reset Logic Output. Pulls low when any voltage input is below the reset threshold and is held low for 200ms after all voltage inputs are above threshold. This pin has a weak pull-up to VCC and may be pulled above VCC using (See Datasheet)", 3 V4 (in) "Voltage Input 4.", 4 V2 (in) "Voltage Input 2. The greater of V1, V2 is also the internal VCC. The operating voltage on this pin shall not exceed 6V. When in normal operation (V1 > V2), this pin draws approximately 8uA. When this pin is acting as the VCC (See Datasheet)", 5 V1 (in) "Voltage Input 1. The greater of V1, V2 is also the internal VCC. The operating voltage on this pin shall not exceed 6V. When in normal operation (V1 > V2), this pin draws approximately 26uA. When this pin is not acting as (See Datasheet)", 6 VADJ1 (in) "Adjustable Voltage Input 1. See Table 1 for recommended ADJ resistors values.", 7 V3 (in) "Voltage Input 3.", 8 VADJ2 (in) "Adjustable Voltage Input 2. See Table 1 for recommended ADJ resistors values.", 9 EP (power) "Exposed pad may be left open or connected to device ground."

## LTC2908CDDB-C1
designator U?
Precision Six Supply Monitor, 8-pin SON (DDB-8), 0 to 70 degC; Manufacturer: Linear Technology; PartNumber: LTC2908CDDB-C1; Number of Supplies(#): 6; DatasheetVersion: Rev. D; PackageVersion: Rev. B, 06/2010; PackageReference: DDB-8; PackageDescription: 8-Pin Plastic DFN, Body 3 x 2 mm, Pitch 0.5 mm; RoHS: FALSE; Mounting Technology: Surface Mount; Code_JEDEC: MO-229; ComponentLink1Description: Manufacturer URL; ComponentLink1URL: http://www.linear.com/; ComponentLink2Description: Datasheet; ComponentLink2URL: http://cds.linear.com/docs/en/datasheet/2908fd.pdf; ComponentLink3Description: Package Specification; ComponentLink3URL: http://cds.linear.com/docs/en/packaging/DFN_8_05-08-1702.pdf
footprint LT-DDB-8_V (SON, 8-Leads, Body 3x2mm, Pitch 0.5mm, Thermal Pad 2.2x0.61mm)
pins: 1 GND (power) "Device Ground.", 2 ~{RST} (oc) "Reset Logic Output. Pulls low when any voltage input is below the reset threshold and is held low for 200ms after all voltage inputs are above threshold. This pin has a weak pull-up to VCC and may be pulled above VCC using (See Datasheet)", 3 VADJ5 (in) "Adjustable Voltage Input 5. See Table 1 for recommended ADJ resistors values.", 4 V1 (in) "Voltage Input 1. V1 is the internal VCC. The operating voltage on this pin shall not exceed 6V. When in normal operation, this pin draws approximately 22uA. Bypass this pin to ground with a 0.1uF (or greater) capacitor.", 5 VADJ1 (in) "Adjustable Voltage Input 1. See Table 1 for recommended ADJ resistors values.", 6 VADJ2 (in) "Adjustable Voltage Input 2. See Table 1 for recommended ADJ resistors values.", 7 VADJ3 (in) "Adjustable Voltage Input 3. See Table 1 for recommended ADJ resistors values.", 8 VADJ4 (in) "Adjustable Voltage Input 4. See Table 1 for recommended ADJ resistors values.", 9 EP (power) "Exposed pad may be left open or connected to device ground."

## LTC2908CDDB-C1#PBF
designator U?
Precision Six Supply Monitor, 8-pin SON (DDB-8), 0 to 70 degC, Pb-Free; Manufacturer: Linear Technology; PartNumber: LTC2908CDDB-C1#PBF; Number of Supplies(#): 6; DatasheetVersion: Rev. D; PackageVersion: Rev. B, 06/2010; PackageReference: DDB-8; PackageDescription: 8-Pin Plastic DFN, Body 3 x 2 mm, Pitch 0.5 mm; RoHS: TRUE; Mounting Technology: Surface Mount; Code_JEDEC: MO-229; ComponentLink1Description: Manufacturer URL; ComponentLink1URL: http://www.linear.com/; ComponentLink2Description: Datasheet; ComponentLink2URL: http://cds.linear.com/docs/en/datasheet/2908fd.pdf; ComponentLink3Description: Package Specification; ComponentLink3URL: http://cds.linear.com/docs/en/packaging/DFN_8_05-08-1702.pdf
footprint LT-DDB-8_V (SON, 8-Leads, Body 3x2mm, Pitch 0.5mm, Thermal Pad 2.2x0.61mm)
pins: 1 GND (power) "Device Ground.", 2 ~{RST} (oc) "Reset Logic Output. Pulls low when any voltage input is below the reset threshold and is held low for 200ms after all voltage inputs are above threshold. This pin has a weak pull-up to VCC and may be pulled above VCC using (See Datasheet)", 3 VADJ5 (in) "Adjustable Voltage Input 5. See Table 1 for recommended ADJ resistors values.", 4 V1 (in) "Voltage Input 1. V1 is the internal VCC. The operating voltage on this pin shall not exceed 6V. When in normal operation, this pin draws approximately 22uA. Bypass this pin to ground with a 0.1uF (or greater) capacitor.", 5 VADJ1 (in) "Adjustable Voltage Input 1. See Table 1 for recommended ADJ resistors values.", 6 VADJ2 (in) "Adjustable Voltage Input 2. See Table 1 for recommended ADJ resistors values.", 7 VADJ3 (in) "Adjustable Voltage Input 3. See Table 1 for recommended ADJ resistors values.", 8 VADJ4 (in) "Adjustable Voltage Input 4. See Table 1 for recommended ADJ resistors values.", 9 EP (power) "Exposed pad may be left open or connected to device ground."

## LTC2908CDDB-C1#TR
designator U?
Precision Six Supply Monitor, 8-pin SON (DDB-8), 0 to 70 degC, Tape and Reel; Manufacturer: Linear Technology; PartNumber: LTC2908CDDB-C1#TR; Number of Supplies(#): 6; DatasheetVersion: Rev. D; PackageVersion: Rev. B, 06/2010; PackageReference: DDB-8; PackageDescription: 8-Pin Plastic DFN, Body 3 x 2 mm, Pitch 0.5 mm; Packing: Tape and Reel; RoHS: FALSE; Mounting Technology: Surface Mount; Code_JEDEC: MO-229; ComponentLink1Description: Manufacturer URL; ComponentLink1URL: http://www.linear.com/; ComponentLink2Description: Datasheet; ComponentLink2URL: http://cds.linear.com/docs/en/datasheet/2908fd.pdf; ComponentLink3Description: Package Specification; ComponentLink3URL: http://cds.linear.com/docs/en/packaging/DFN_8_05-08-1702.pdf
footprint LT-DDB-8_V (SON, 8-Leads, Body 3x2mm, Pitch 0.5mm, Thermal Pad 2.2x0.61mm)
pins: 1 GND (power) "Device Ground.", 2 ~{RST} (oc) "Reset Logic Output. Pulls low when any voltage input is below the reset threshold and is held low for 200ms after all voltage inputs are above threshold. This pin has a weak pull-up to VCC and may be pulled above VCC using (See Datasheet)", 3 VADJ5 (in) "Adjustable Voltage Input 5. See Table 1 for recommended ADJ resistors values.", 4 V1 (in) "Voltage Input 1. V1 is the internal VCC. The operating voltage on this pin shall not exceed 6V. When in normal operation, this pin draws approximately 22uA. Bypass this pin to ground with a 0.1uF (or greater) capacitor.", 5 VADJ1 (in) "Adjustable Voltage Input 1. See Table 1 for recommended ADJ resistors values.", 6 VADJ2 (in) "Adjustable Voltage Input 2. See Table 1 for recommended ADJ resistors values.", 7 VADJ3 (in) "Adjustable Voltage Input 3. See Table 1 for recommended ADJ resistors values.", 8 VADJ4 (in) "Adjustable Voltage Input 4. See Table 1 for recommended ADJ resistors values.", 9 EP (power) "Exposed pad may be left open or connected to device ground."

## LTC2908CDDB-C1#TRM
designator U?
Precision Six Supply Monitor, 8-pin SON (DDB-8), 0 to 70 degC, Mini Tape and Reel; Manufacturer: Linear Technology; PartNumber: LTC2908CDDB-C1#TRM; Number of Supplies(#): 6; DatasheetVersion: Rev. D; PackageVersion: Rev. B, 06/2010; PackageReference: DDB-8; PackageDescription: 8-Pin Plastic DFN, Body 3 x 2 mm, Pitch 0.5 mm; Packing: Mini Tape and Reel; RoHS: FALSE; Mounting Technology: Surface Mount; Code_JEDEC: MO-229; ComponentLink1Description: Manufacturer URL; ComponentLink1URL: http://www.linear.com/; ComponentLink2Description: Datasheet; ComponentLink2URL: http://cds.linear.com/docs/en/datasheet/2908fd.pdf; ComponentLink3Description: Package Specification; ComponentLink3URL: http://cds.linear.com/docs/en/packaging/DFN_8_05-08-1702.pdf
footprint LT-DDB-8_V (SON, 8-Leads, Body 3x2mm, Pitch 0.5mm, Thermal Pad 2.2x0.61mm)
pins: 1 GND (power) "Device Ground.", 2 ~{RST} (oc) "Reset Logic Output. Pulls low when any voltage input is below the reset threshold and is held low for 200ms after all voltage inputs are above threshold. This pin has a weak pull-up to VCC and may be pulled above VCC using (See Datasheet)", 3 VADJ5 (in) "Adjustable Voltage Input 5. See Table 1 for recommended ADJ resistors values.", 4 V1 (in) "Voltage Input 1. V1 is the internal VCC. The operating voltage on this pin shall not exceed 6V. When in normal operation, this pin draws approximately 22uA. Bypass this pin to ground with a 0.1uF (or greater) capacitor.", 5 VADJ1 (in) "Adjustable Voltage Input 1. See Table 1 for recommended ADJ resistors values.", 6 VADJ2 (in) "Adjustable Voltage Input 2. See Table 1 for recommended ADJ resistors values.", 7 VADJ3 (in) "Adjustable Voltage Input 3. See Table 1 for recommended ADJ resistors values.", 8 VADJ4 (in) "Adjustable Voltage Input 4. See Table 1 for recommended ADJ resistors values.", 9 EP (power) "Exposed pad may be left open or connected to device ground."

## LTC2908CDDB-C1#TRMPBF
designator U?
Precision Six Supply Monitor, 8-pin SON (DDB-8), 0 to 70 degC, Pb-Free, Mini Tape and Reel; Manufacturer: Linear Technology; PartNumber: LTC2908CDDB-C1#TRMPBF; Number of Supplies(#): 6; DatasheetVersion: Rev. D; PackageVersion: Rev. B, 06/2010; PackageReference: DDB-8; PackageDescription: 8-Pin Plastic DFN, Body 3 x 2 mm, Pitch 0.5 mm; Supplier 1: Digi-Key; Supplier Part Number 1: LTC2908CDDB-C1#TRMPBF-ND; Packing: Mini Tape and Reel; RoHS: TRUE; Mounting Technology: Surface Mount; Code_JEDEC: MO-229; ComponentLink1Description: Manufacturer URL; ComponentLink1URL: http://www.linear.com/; ComponentLink2Description: Datasheet; ComponentLink2URL: http://cds.linear.com/docs/en/datasheet/2908fd.pdf; ComponentLink3Description: Package Specification; ComponentLink3URL: http://cds.linear.com/docs/en/packaging/DFN_8_05-08-1702.pdf
footprint LT-DDB-8_V (SON, 8-Leads, Body 3x2mm, Pitch 0.5mm, Thermal Pad 2.2x0.61mm)
pins: 1 GND (power) "Device Ground.", 2 ~{RST} (oc) "Reset Logic Output. Pulls low when any voltage input is below the reset threshold and is held low for 200ms after all voltage inputs are above threshold. This pin has a weak pull-up to VCC and may be pulled above VCC using (See Datasheet)", 3 VADJ5 (in) "Adjustable Voltage Input 5. See Table 1 for recommended ADJ resistors values.", 4 V1 (in) "Voltage Input 1. V1 is the internal VCC. The operating voltage on this pin shall not exceed 6V. When in normal operation, this pin draws approximately 22uA. Bypass this pin to ground with a 0.1uF (or greater) capacitor.", 5 VADJ1 (in) "Adjustable Voltage Input 1. See Table 1 for recommended ADJ resistors values.", 6 VADJ2 (in) "Adjustable Voltage Input 2. See Table 1 for recommended ADJ resistors values.", 7 VADJ3 (in) "Adjustable Voltage Input 3. See Table 1 for recommended ADJ resistors values.", 8 VADJ4 (in) "Adjustable Voltage Input 4. See Table 1 for recommended ADJ resistors values.", 9 EP (power) "Exposed pad may be left open or connected to device ground."